# EAGLE library part PE4140 (library NewSDR)
Peregrine Quad MOSFET Array
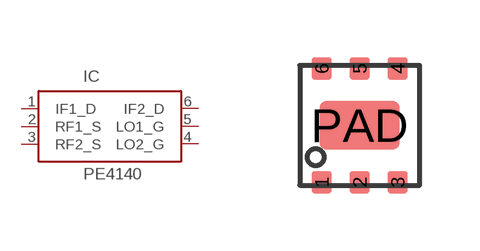
[diagram p128: symbol with the pads of DFN6; footprint DFN6]

Designator prefix IC

## PE4140  [DFN6]
1  IF1_D  pas
2  RF1_S  pas
3  RF2_S  pas
4  LO2_G  pas
5  LO1_G  pas
6  IF2_D  pas

## Footprint DFN6 (pad centres in mm)
6-Lead DFN
smd 0.5 x 0.55: 1 -0.95,-1.425; 2 0,-1.425; 3 0.95,-1.425; 4 0.95,1.425; 5 0,1.425; 6 -0.95,1.425
smd 2 x 1.2: PAD 0,0